# Altium footprint library TEST_POINT.PcbLib: 2 footprints
Each footprint in its own frame and in the unit in brackets; x right, y up, seen from the top. Pads: shape width x height; smd on the part's side, far side on the other; paste and mask are expansions set on the pad; w line width, h text height; cw(c..) or ccw(c..) is an arc to the next point about the centre after c.
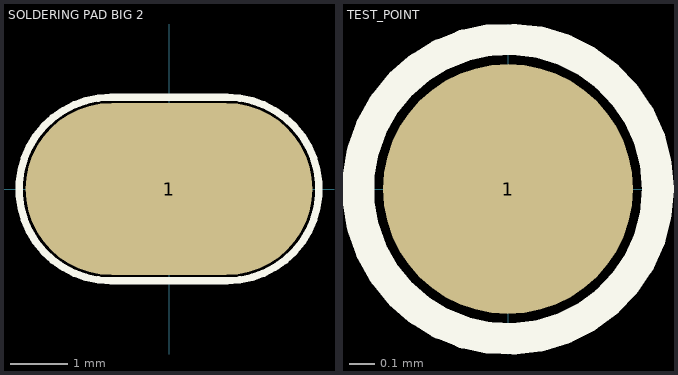
[diagram p0: the footprints below, top view; thin cyan lines are the x and y axes]

## SOLDERING PAD BIG 2 [mm]
pads (1):
  oval 5x3 smd: 1(0,0)
Top Overlay:
  lines w0.127: -1.016,-1.6 cw(c-1.016,0) -1.016,1.6 1.016,1.6 cw(c1.016,0) 1.016,-1.6 -1.016,-1.6

## TEST_POINT [mm]
pads (1):
  round 1 smd: 1(0,0)
Top Overlay:
  circle w0.127: c0,0 r0.6